# Altium footprint library 400236.PcbLib: 64 footprints (part 1 of 4)
Each footprint in its own frame and in the unit in brackets; x right, y up, seen from the top. Pads: shape width x height; smd on the part's side, far side on the other; paste and mask are expansions set on the pad; w line width, h text height; cw(c..) or ccw(c..) is an arc to the next point about the centre after c.
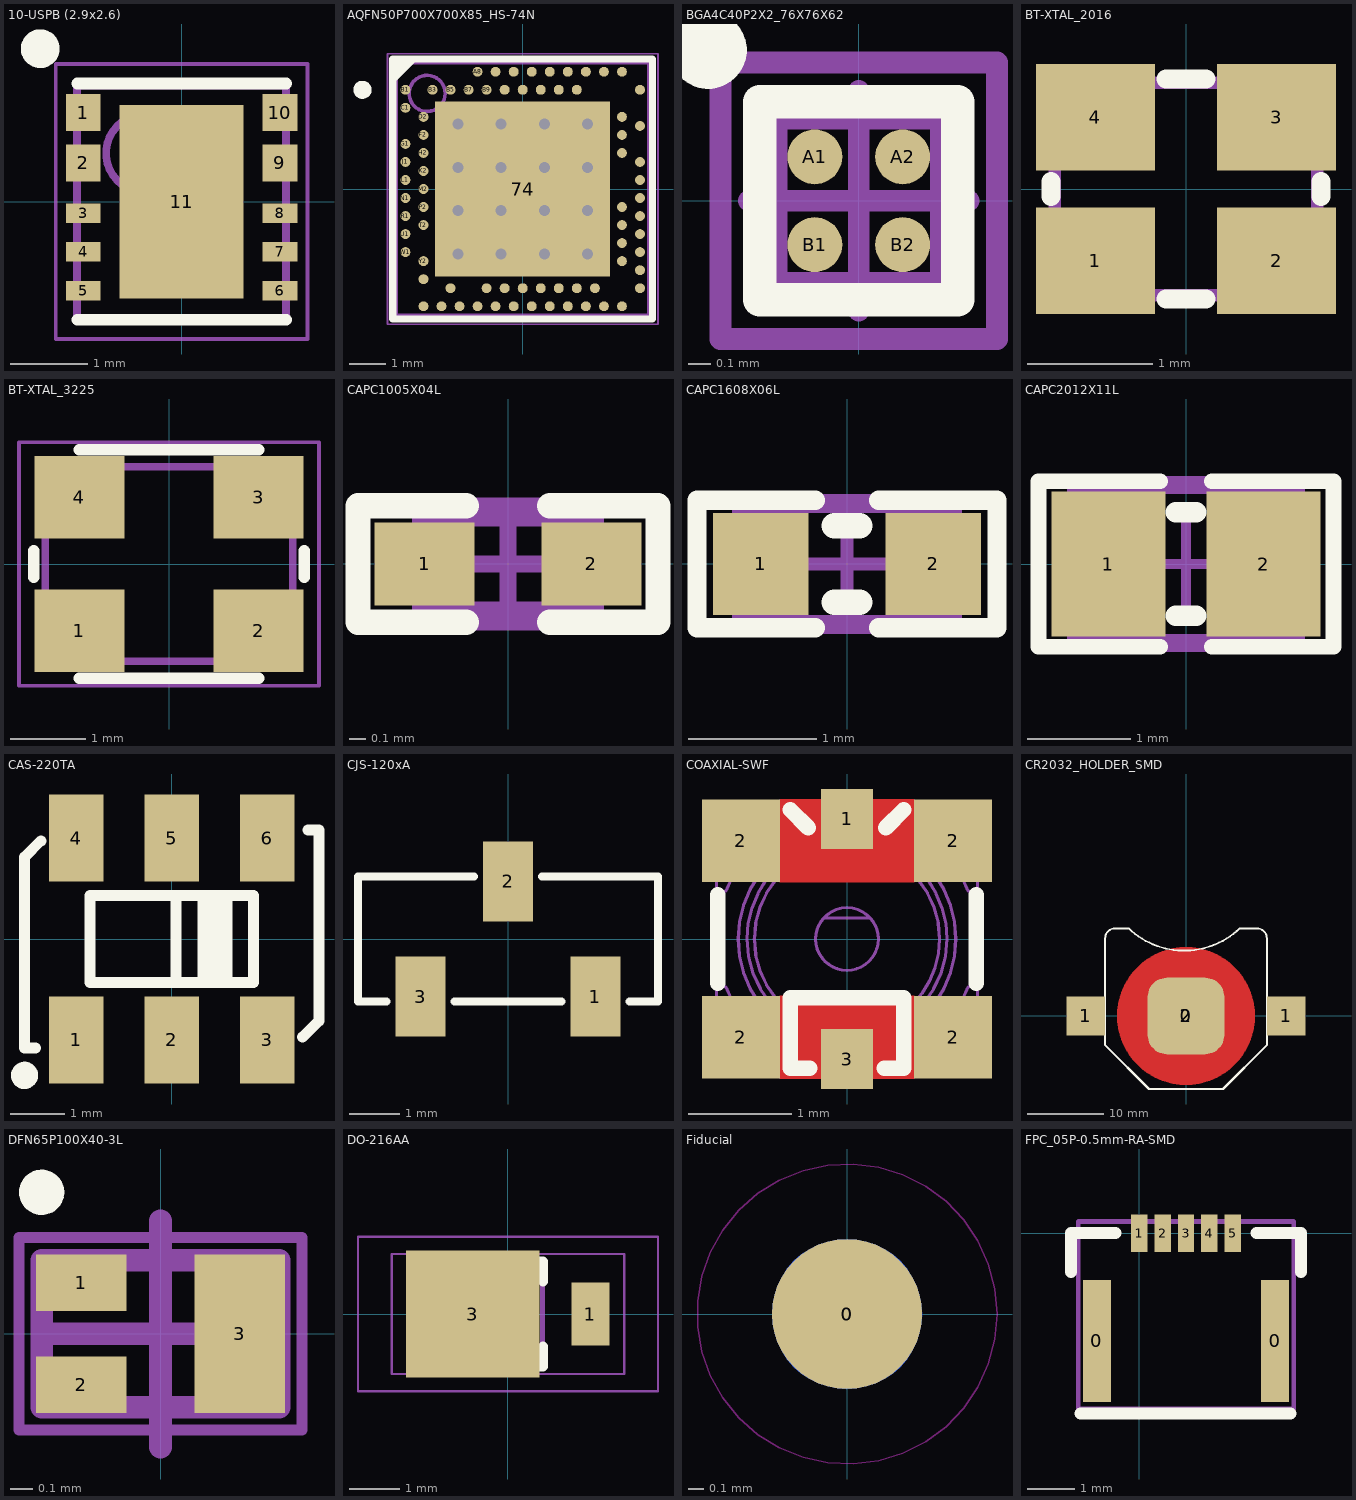
[diagram p0: the footprints below, top view; thin cyan lines are the x and y axes]

## 10-USPB (2.9x2.6) [mm]
pads (11):
  rect 0.45x0.475 smd paste-0.088 mask+0.07: 1(-1.27,1.15) 2(-1.27,0.5) 9(1.27,0.5) 10(1.27,1.15)
  rect 0.45x0.25 smd paste-0.05 mask+0.07: 3(-1.27,-0.15) 4(-1.27,-0.65) 5(-1.27,-1.15) 6(1.27,-1.15) 7(1.27,-0.65) 8(1.27,-0.15)
  rect 1.6x2.5 smd paste-5: 11(0,0)
Top Overlay:
  circle w0.25: c-1.825,1.975 r0.125
  lines w0.15: -1.35,-1.525 1.35,-1.525 ; -1.35,1.525 1.35,1.525
Top Paste:
  rectangle: -1.445,-0.775 -1.095,-0.525
  rectangle: -1.445,0.35 -1.095,0.65
  rectangle: -1.445,-1.275 -1.095,-1.025
  region: 0.7,-0.55 -0.7,-0.55 -0.7,-1.05 0.7,-1.05
  rectangle: -1.445,-0.275 -1.095,-0.025
  rectangle: -1.445,1 -1.095,1.3
  rectangle: -0.7,0.55 0.7,1.05
  rectangle: 1.095,-1.275 1.445,-1.025
  rectangle: 1.095,-0.775 1.445,-0.525
  rectangle: 1.095,0.35 1.445,0.65
  rectangle: 1.095,-0.275 1.445,-0.025
  rectangle: 1.095,1 1.445,1.3
Mechanical 13:
  circle w0.1: c-0.475,0.625 r0.5
  lines w0.1: -1.35,-1.5 -1.35,1.5 1.35,1.5 1.35,-1.5 -1.35,-1.5
Mechanical 15:
  lines w0.05: -1.625,-1.775 -1.625,1.775 1.625,1.775 1.625,-1.775 -1.625,-1.775
  lines w0.1: -0.5,0 0.5,0 ; 0,-0.5 0,0.5
3D body: height 0.6, standoff 0, extent -1.3,-1.45 1.3,1.45

## AQFN50P700X700X85_HS-74N [mm]
pads (74):
  rect 4.85x4.85 smd mask+0.05: 74(0,0)
  round 0.275 smd paste+0.012 mask+0.05: A8(-1.25,3.25) A10(-0.75,3.25) A12(-0.25,3.25) A14(0.25,3.25) A16(0.75,3.25) A18(1.25,3.25) A20(1.75,3.25) A22(2.25,3.25) A23(2.75,3.25) AA24(3.25,-2.25) AB2(-2.75,-2.5) AC5(-2,-2.75) AC9(-1,-2.75) AC11(-0.5,-2.75) AC13(0,-2.75) AC15(0.5,-2.75) AC17(1,-2.75) AC19(1.5,-2.75) AC21(2,-2.75) AC24(3.25,-2.75) AD2(-2.75,-3.25) AD4(-2.25,-3.25) AD6(-1.75,-3.25) AD8(-1.25,-3.25) AD10(-0.75,-3.25) AD12(-0.25,-3.25) AD14(0.25,-3.25) AD16(0.75,-3.25) AD18(1.25,-3.25) AD20(1.75,-3.25) AD22(2.25,-3.25) AD23(2.75,-3.25) B1(-3.25,2.75) B3(-2.5,2.75) B5(-2,2.75) B7(-1.5,2.75) B9(-1,2.75) B11(-0.5,2.75) B13(0,2.75) B15(0.5,2.75) B17(1,2.75) B19(1.5,2.75) B24(3.25,2.75) C1(-3.25,2.25) D2(-2.75,2) D23(2.75,2) E24(3.25,1.75) F2(-2.75,1.5) F23(2.75,1.5) G1(-3.25,1.25) H2(-2.75,1) H23(2.75,1) J1(-3.25,0.75) J24(3.25,0.75) K2(-2.75,0.5) L1(-3.25,0.25) L24(3.25,0.25) M2(-2.75,0) N1(-3.25,-0.25) N24(3.25,-0.25) P2(-2.75,-0.5) P23(2.75,-0.5) R1(-3.25,-0.75) R24(3.25,-0.75) T2(-2.75,-1) T23(2.75,-1) U1(-3.25,-1.25) U24(3.25,-1.25) V23(2.75,-1.5) W1(-3.25,-1.75) W24(3.25,-1.75) Y2(-2.75,-2) Y23(2.75,-2)
via 1.8,1.8 diameter 0.61 hole 0.305
via 1.8,0.6 diameter 0.61 hole 0.305
via 0.6,1.8 diameter 0.61 hole 0.305
via 0.6,-0.6 diameter 0.61 hole 0.305
via 0.6,0.6 diameter 0.61 hole 0.305
via 1.8,-1.8 diameter 0.61 hole 0.305
via 1.8,-0.6 diameter 0.61 hole 0.305
via 0.6,-1.8 diameter 0.61 hole 0.305
via -0.6,1.8 diameter 0.61 hole 0.305
via -0.6,0.6 diameter 0.61 hole 0.305
via -1.8,1.8 diameter 0.61 hole 0.305
via -1.8,0.6 diameter 0.61 hole 0.305
via -0.6,-0.6 diameter 0.61 hole 0.305
via -0.6,-1.8 diameter 0.61 hole 0.305
via -1.8,-0.6 diameter 0.61 hole 0.305
via -1.8,-1.8 diameter 0.61 hole 0.305
Top Overlay:
  circle w0.25: c-4.44,2.75 r0.125
  region: -3,3.5 -3.5,3 -3.5,3.5
  lines w0.2: -3.6,-3.6 3.6,-3.6 3.6,3.6 -3.6,3.6 -3.6,-3.6
Mechanical 7:
  circle w0.1: c-2.65,2.65 r0.5
  lines w0.1: -3.5,-3.5 3.5,-3.5 3.5,3.5 -3.5,3.5 -3.5,-3.5
  text ".Designator" at -0.75,-0.25 h0.38
Mechanical 15:
  lines w0.05: -3.75,-3.75 3.75,-3.75 3.75,3.75 -3.75,3.75 -3.75,-3.75
  lines w0.1: -0.5,0 0.5,0 ; 0,-0.5 0,0.5
3D body "LGA88C25P25X25_700X700X85.step": height 0.85, standoff 0, extent -3.55,-3.55 3.55,3.55

## BGA4C40P2X2_76X76X62 [mm]
pads (4):
  round 0.25 smd mask+0.06: A1(-0.2,0.2) A2(0.2,0.2) B1(-0.2,-0.2) B2(0.2,-0.2)
Top Overlay:
  circle w0.254: c-0.687,0.687 r0.05
  lines w0.152: -0.451,-0.451 -0.451,0.451 0.451,0.451 0.451,-0.451 -0.451,-0.451
Mechanical 7:
  circle w0.127: c-0.2,0.2 r0.051
  lines w0.1: -0.375,-0.375 0.375,-0.375 0.375,0.375 -0.375,0.375 -0.375,-0.375
  text ".Designator" at -0.374,0.505 h0.38
Mechanical 15:
  lines w0.1: -0.5,0 0.5,0 ; 0,-0.5 0,0.5 ; -0.63,-0.63 -0.63,0.63 0.63,0.63 0.63,-0.63 -0.63,-0.63
3D body: height 0.63, standoff 0.12, extent -0.375,-0.375 0.375,0.375

## BT-XTAL_2016 [mm]
pads (4):
  rect 0.95x0.85 smd: 1(-0.725,-0.575) 2(0.725,-0.575) 3(0.725,0.575) 4(-0.725,0.575)
Top Overlay:
  lines w0.152: -1.08,-0.06 -1.08,0.06 ; -0.16,-0.88 0.16,-0.88 ; -0.16,0.88 0.16,0.88 ; 1.08,-0.06 1.08,0.06
Mechanical 7:
  lines w0.1: -1.05,-0.85 -1.05,0.85 1.05,0.85 1.05,-0.85 -1.05,-0.85
  text ".Designator" at -0.7,-0.2 h0.38
3D body: height 0.56, standoff 0.15, extent -0.7,-0.65 0.7,0.65
3D body "User Library-GeyerElectronics_KX5.step": height 0.56, standoff 0, extent -1.05,-0.85 1.05,0.85

## BT-XTAL_3225 [mm]
pads (4):
  rect 1.2x1.1 smd: 1(-1.194,-0.89) 2(1.194,-0.89) 3(1.194,0.891) 4(-1.194,0.891)
Top Overlay:
  lines w0.152: -1.803,-0.178 -1.803,0.178 ; -1.194,-1.524 1.194,-1.524 ; -1.194,1.524 1.194,1.524 ; 1.803,-0.178 1.803,0.178
Mechanical 3:
  lines w0.05: -2,-1.625 -2,1.625 2,1.625 2,-1.625 -2,-1.625
Mechanical 7:
  lines w0.1: -1.65,-1.3 -1.65,1.3 1.65,1.3 1.65,-1.3 -1.65,-1.3
  text ".Designator" at -0.845,-0.133 h0.38
3D body "User Library-tsx-3225.STEP": height 0.6, standoff 0, extent -1.6,-1.25 1.6,1.25

## CAPC1005X04L [mm]
pads (2):
  rect 0.6x0.5 smd: 1(-0.5,0) 2(0.5,0)
Top Overlay:
  lines w0.152: -0.25,-0.35 -0.9,-0.35 -0.9,0.35 -0.25,0.35 ; 0.25,-0.35 0.9,-0.35 0.9,0.35 0.25,0.35
Mechanical 7:
  lines w0.1: -0.525,-0.275 -0.525,0.275 0.525,0.275 0.525,-0.275 -0.525,-0.275
  text ".Designator" at -0.525,0.387 h0.38
Mechanical 15:
  lines w0.1: -0.275,0 0.275,0 ; 0,-0.275 0,0.275 ; -0.9,-0.35 -0.9,0.35 0.9,0.35 0.9,-0.35 -0.9,-0.35
3D body "User Library-0402(1005M) Cap.step": height 0.5, standoff -0.01, extent -0.508,-0.254 0.508,0.254

## CAPC1608X06L [mm]
pads (2):
  rect 0.75x0.8 smd: 1(-0.675,0) 2(0.675,0)
Top Overlay:
  lines w0.152: -0.25,-0.5 -1.175,-0.5 -1.175,0.5 -0.25,0.5 ; 0.25,-0.5 1.175,-0.5 1.175,0.5 0.25,0.5
  lines w0.2: -0.1,-0.3 0.1,-0.3 ; -0.1,0.3 0.1,0.3
Mechanical 7:
  lines w0.1: -0.85,-0.45 -0.85,0.45 0.85,0.45 0.85,-0.45 -0.85,-0.45
  text ".Designator" at -0.685,-0.142 h0.38
Mechanical 15:
  lines w0.1: -0.45,0 0.45,0 ; 0,-0.45 0,0.45 ; -1.175,-0.5 -1.175,0.5 1.175,0.5 1.175,-0.5 -1.175,-0.5
3D body "User Library-Chip Capacitor 0603.step": height 0.8, standoff 0, extent -0.8,-0.43 0.8,0.43

## CAPC2012X11L [mm]
pads (2):
  rect 1.1x1.4 smd: 1(-0.75,0) 2(0.75,0)
Top Overlay:
  lines w0.152: -0.25,-0.8 -1.425,-0.8 -1.425,0.8 -0.25,0.8 ; 0.25,-0.8 1.425,-0.8 1.425,0.8 0.25,0.8
  lines w0.2: -0.1,-0.5 0.1,-0.5 ; -0.1,0.5 0.1,0.5
Mechanical 7:
  lines w0.1: -1.1,-0.725 1.1,-0.725 1.1,0.725 -1.1,0.725 -1.1,-0.725
  text ".Designator" at -0.675,-0.15 h0.38
Mechanical 15:
  lines w0.1: -0.5,0 0.5,0 ; 0,-0.5 0,0.5 ; -1.425,-0.8 1.425,-0.8 1.425,0.8 -1.425,0.8 -1.425,-0.8
3D body "SW3dPS-0805 SMD Capacitor.STEP": height 0.77, standoff -0.01, extent -1,-0.625 1,0.625

## CAS-220TA [mm]
pads (6):
  rect 1x1.6 smd: 1(-1.75,-1.85) 2(0,-1.85) 3(1.75,-1.85) 4(-1.75,1.85) 5(0,1.85) 6(1.75,1.85)
Top Overlay:
  circle w0.3: c-2.7,-2.5 r0.1
  rectangle: 0.47,-0.8 1.11,0.8
  lines w0.2: -2.5,-2 -2.7,-2 -2.7,1.5 -2.4,1.8 ; 0.08,-0.8 0.08,0.8 ; 2.4,-1.8 2.7,-1.5 2.7,2 2.5,2 ; -1.5,-0.8 -1.5,0.8 1.5,0.8 1.5,-0.8 -1.5,-0.8
3D body: height 1.2, standoff 0, extent -2.05,-2.155 -1.45,-2.005
3D body: height 0.15, standoff 0, extent -2.05,-2.005 -1.45,-1.305
3D body: height 1.2, standoff 0, extent -0.3,-2.155 0.3,-2.005
3D body: height 0.15, standoff 0, extent -0.3,-2.005 0.3,-1.305
3D body: height 2.51, standoff 2.5, extent -1.497,-1.879 -0.9,-1.28
3D body: height 2.5, standoff 2.2, extent -2.7,-1.15 -1.5,1.15
3D body: height 0.15, standoff 0, extent -2.05,1.305 -1.45,2.005
3D body: height 0.15, standoff 0, extent -0.3,1.305 0.3,2.005
3D body: height 1.2, standoff 0, extent -2.05,2.005 -1.45,2.155
3D body: height 1.2, standoff 0, extent -0.3,2.005 0.3,2.155
3D body: height 2.5, standoff 2.2, extent -2.7,-2 2.7,-0.8
3D body: height 2.5, standoff 2.22, extent 0.47,-0.8 1.11,0.8
3D body: height 2.22, standoff 2.2, extent 0.08,-0.8 1.5,0.8
3D body: height 1.2, standoff 0, extent 1.45,-2.155 2.05,-2.005
3D body: height 0.15, standoff 0, extent 1.45,-2.005 2.05,-1.305
3D body: height 2.2, standoff 0.15, extent -2.7,-2 2.7,2
3D body: height 2.5, standoff 2.2, extent -2.7,0.8 2.7,2
3D body: height 0.15, standoff 0, extent 1.45,1.305 2.05,2.005
3D body: height 2.5, standoff 2.2, extent 1.5,-1.15 2.7,1.15
3D body: height 1.2, standoff 0, extent 1.45,2.005 2.05,2.155

## CJS-120xA [mm]
pads (3):
  rect 1x1.6 smd: 1(1.75,-1.15) 2(0,1.15) 3(-1.75,-1.15)
Top Overlay:
  lines w0.152: -2.43,-1.25 -3,-1.25 -3,1.25 -0.68,1.25 ; -1.07,-1.25 1.07,-1.25 ; 0.68,1.25 3,1.25 3,-1.25 2.43,-1.25
3D body "User Library-CJS-1200TA -Copal Electronics -SPDT Micro Slide Switch.step": height 2.5, standoff 0, extent -3,-1.4 3,1.45

## COAXIAL-SWF [mm]
pads (6):
  rect 0.5x0.58 smd: 1(0,1.16) 3(0,-1.16)
  rect 0.75x0.8 smd: 2(-1.025,-0.95) 2(-1.025,0.95) 2(1.025,-0.95) 2(1.025,0.95)
Top Layer:
  pour cut-out: 0.65,-0.55 -0.65,-0.55 -0.65,-1.35 0.65,-1.35
  pour cut-out: -0.65,0.55 0.65,0.55 0.65,1.35 -0.65,1.35
Top Overlay:
  lines w0.15: -1.25,-0.43 -1.25,0.43 ; -0.55,1.25 -0.375,1.075 ; -0.36,-1.25 -0.55,-1.25 -0.55,-0.57 0.55,-0.57 0.55,-1.25 0.36,-1.25 ; 0.375,1.075 0.55,1.25 ; 1.25,-0.43 1.25,0.43
Mechanical 7:
  drawing of 206 lines, arcs and shapes, not listed
3D body: height 0.6, standoff 0, extent 0.757,-1.246 1.262,-0.653
3D body: height 0.15, standoff 0, extent -0.227,-1.301 0.227,-0.758
3D body: height 0.6, standoff 0, extent -1.262,-1.25 -0.757,-0.649
3D body: height 0.6, standoff 0, extent 0.757,0.655 1.262,1.249
3D body: height 0.15, standoff 0, extent -0.227,0.899 0.227,1.299
3D body: height 1.4, standoff 0.6, extent -0.9,-0.9 0.9,0.901
3D body: height 0.95, standoff 0.75, extent -1,-0.999 1,1.001
3D body: height 0.75, standoff 0.6, extent -1.05,-1.049 1.05,1.05
3D body: height 1.55, standoff 1.25, extent -1.05,-1.05 1.05,1.05
3D body: height 1.25, standoff 0.95, extent -1.05,-1.049 1.05,1.05
3D body: height 0.9, standoff 0.6, extent -1.05,-1.049 1.05,1.05
3D body: height 0.55, standoff 0.1, extent -1.262,-1.252 1.262,1.253
3D body: height 0.6, standoff 0.55, extent -1.262,-1.248 1.262,1.251
3D body: height 0.6, standoff 0, extent -1.262,0.655 -0.757,1.248

## CR2032_HOLDER_SMD [mm]
pads (4):
  round 18 on Top Solder paste+0: 0(0,0)
  rect 5.08x5.08 smd: 1(-13.081,0) 1(13.081,0)
  rrect50% 10x10 smd paste-9: 2(0,0)
Top Layer:
  circle w5: c0,0 r6.5
Top Overlay:
  lines w0.254: -4.445,-9.525 4.826,-9.525 10.541,-3.81 10.541,10.16 ccw(c9.271,10.16) 9.271,11.43 6.985,11.43 ; -4.191,-9.525 -4.826,-9.525 -10.541,-3.81 -10.541,10.16 cw(c-9.271,10.16) -9.271,11.43 -7.493,11.43 ccw(c-0.233,19.072) 7.027,11.43
3D body "User Library-CR2032-3002.step": height 3.96, standoff 0, extent -15.367,-10.274 15.367,9.779

## DFN65P100X40-3L [mm]
pads (3):
  rect 0.4x0.25 smd: 1(-0.35,0.225) 2(-0.35,-0.225)
  rect 0.4x0.7 smd: 3(0.35,0)
Top Overlay:
  circle w0.1: c-0.525,0.625 r0.05
Mechanical 7:
  lines w0.1: -0.525,-0.325 -0.525,0.325 0.525,0.325 0.525,-0.325 -0.525,-0.325
  text ".Designator" at -0.425,-0.175 h0.38
Mechanical 15:
  lines w0.05: -0.625,-0.425 0.625,-0.425 0.625,0.425 -0.625,0.425 -0.625,-0.425
  lines w0.1: -0.5,0 0.5,0 ; 0,-0.5 0,0.5
3D body "DFN65P100X40-3L.step": height 0.4, standoff 0, extent -0.525,-0.325 0.525,0.325

## DO-216AA [mm]
pads (2):
  rect 0.762x1.27 smd: 1(1.65,0)
  rect 2.67x2.54 smd: 3(-0.7,0)
Top Overlay:
  rectangle: -1.6,-1.05 -0.8,1.05
  lines w0.2: -1.5,-0.65 -1.5,-1.05 0.7,-1.05 0.7,-0.65 ; -1.5,0.65 -1.5,1.05 0.7,1.05 0.7,0.65
Mechanical 7:
  lines w0.1: -1.49,-1.025 -1.49,1.025 0.69,1.025 0.69,-1.025 -1.49,-1.025
  text ".Designator" at -1.3,-0.15 h0.38
Mechanical 15:
  lines w0.05: -3,-1.55 -3,1.55 3,1.55 3,-1.55 -3,-1.55 ; -2.325,-1.2 -2.325,1.2 2.325,1.2 2.325,-1.2 -2.325,-1.2
  lines w0.1: -0.5,0 0.5,0 -0.5,0 ; 0,-0.5 0,0.5 0,-0.5
3D body "User Library-DO-216AA.step": height 1.01, standoff 0, extent -1.9,-1 1.95,1

## Fiducial [mm]
pads (2):
  round 1 smd far side paste-10 mask+0.5: 0(0,0)
  round 1 smd paste-10 mask+0.5: 0(0,0)
Keep-Out Layer:
  circle w0.01: c0,0 r1

## FPC_05P-0.5mm-RA-SMD [mm]
pads (7):
  rect 0.6x2.6 smd: 0(-0.9,-2.3) 0(2.9,-2.3)
  rect 0.35x0.8 smd: 1(0,0) 2(0.5,0) 3(1,0) 4(1.5,0) 5(2,0)
Top Overlay:
  lines w0.254: -1.45,-0.825 -1.45,0 -0.5,0 ; -1.25,-3.85 3.225,-3.85 ; 2.5,0 3.45,0 3.45,-0.825
Mechanical 7:
  lines w0.1: -1.3,-3.75 3.3,-3.75 3.3,0.25 -1.3,0.25 -1.3,-3.75
  text ".Designator" at -0.825,-2.2 h0.38
3D body "512810594.stp": height 1.2, standoff 0, extent -1.3,-3.85 3.3,0.2